# EAGLE library part TPS638 (library Eagle_CAD_parts)
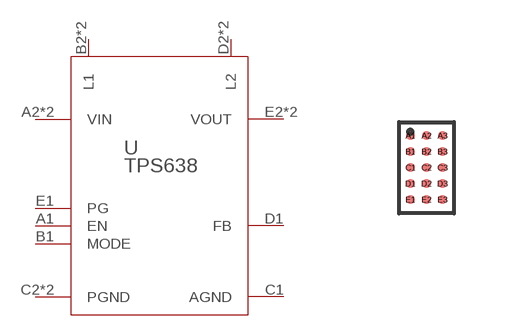
[diagram p51: symbol with the pads of 15-DSBGA; footprint 15-DSBGA]

Designator prefix U

## TPS63806 (DIGIKEY_PART_NUMBER: 296-TPS63806YFFRCT-ND; MANUFACTURER_PART_NUMBER: TPS63806YFFR)  [15-DSBGA]
A1  EN  in
A2  VIN  pwr
A3  VIN  pwr
B1  MODE  in
B2  L1  pas
B3  L1  pas
C1  AGND  pwr
C2  PGND  pwr
C3  PGND  pwr
D1  FB  out
D2  L2  pas
D3  L2  pas
E1  PG  oc
E2  VOUT  pwr
E3  VOUT  pwr

## Footprint 15-DSBGA (pad centres in mm)
smd 0.23 x 0.23: A1 -0.4,0.8; A2 0,0.8; A3 0.4,0.8; B1 -0.4,0.4; B2 0,0.4; B3 0.4,0.4; C1 -0.4,0; C2 0,0; C3 0.4,0; D1 -0.4,-0.4; D2 0,-0.4; D3 0.4,-0.4; E1 -0.4,-0.8; E2 0,-0.8; E3 0.4,-0.8